# Altium schematic symbol library ZYF_Connector.SchLib: 39 symbols
Pins are listed as number, name and electrical type; pins without a type are passive.

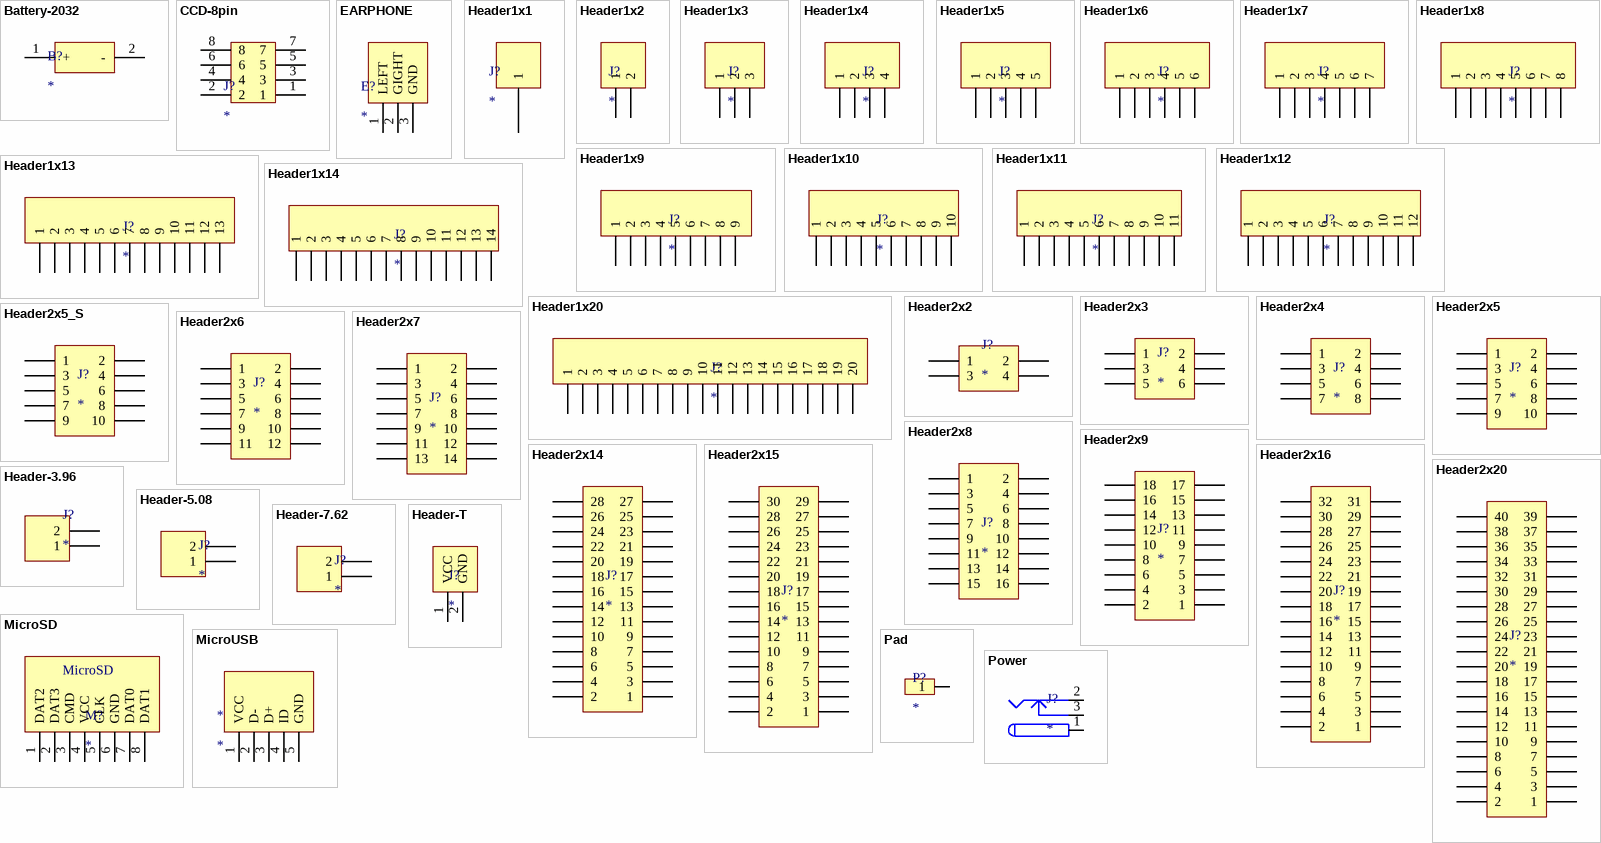
[diagram p0: symbols Battery-2032 to Power]

## Battery-2032
designator B?
footprint BATTERY-2032
pins: 1 +, 2 -

## CCD-8pin
designator J?
footprint CCD_8PIN
pins: 1, 2, 3, 4, 5, 6, 7, 8

## EARPHONE
designator E?
footprint EARPHONE
pins: 1 LEFT, 2 GIGHT, 3 GND

## Header1x1
designator J?
footprint HEADER1X1
pins: 1

## Header1x2
designator J?
footprint HEADER1X2
pins: 1, 2

## Header1x3
designator J?
footprint HEADER1X3
pins: 1, 2, 3

## Header1x4
designator J?
footprint HEADER1X4
pins: 1, 2, 3, 4

## Header1x5
designator J?
footprint HEADER1X5
pins: 1, 2, 3, 4, 5

## Header1x6
designator J?
footprint HEADER1X6
pins: 1, 2, 3, 4, 5, 6

## Header1x7
designator J?
footprint HEADER1X7
pins: 1, 2, 3, 4, 5, 6, 7

## Header1x8
designator J?
footprint HEADER1X8
pins: 1, 2, 3, 4, 5, 6, 7, 8

## Header1x9
designator J?
footprint HEADER1X9
pins: 1, 2, 3, 4, 5, 6, 7, 8, 9

## Header1x10
designator J?
footprint HEADER1X10
pins: 1, 2, 3, 4, 5, 6, 7, 8, 9, 10

## Header1x11
designator J?
footprint HEADER1X11
pins: 1, 2, 3, 4, 5, 6, 7, 8, 9, 10, 11

## Header1x12
designator J?
footprint HEADER1X12
pins: 1, 2, 3, 4, 5, 6, 7, 8, 9, 10, 11, 12

## Header1x13
designator J?
footprint HEADER1X13
pins: 1, 2, 3, 4, 5, 6, 7, 8, 9, 10, 11, 12, 13

## Header1x14
designator J?
footprint HEADER1X14
pins: 1, 2, 3, 4, 5, 6, 7, 8, 9, 10, 11, 12, 13, 14

## Header1x20
designator J?
footprint HEADER1X20
pins: 1, 2, 3, 4, 5, 6, 7, 8, 9, 10, 11, 12, 13, 14, 15, 16, 17, 18, 19, 20

## Header2x2
designator J?
footprint HEADER2X2
pins: 1, 2, 3, 4

## Header2x3
designator J?
footprint HEADER2X3
pins: 1, 2, 3, 4, 5, 6

## Header2x4
designator J?
footprint HEADER2X4
pins: 1, 2, 3, 4, 5, 6, 7, 8

## Header2x5
designator J?
footprint HEADER2X5
pins: 1, 2, 3, 4, 5, 6, 7, 8, 9, 10

## Header2x5_S
designator J?
footprint HEADER2X5_S
pins: 1, 2, 3, 4, 5, 6, 7, 8, 9, 10

## Header2x6
designator J?
footprint HEADER2X6
pins: 1, 2, 3, 4, 5, 6, 7, 8, 9, 10, 11, 12

## Header2x7
designator J?
footprint HEADER2X7
pins: 1, 2, 3, 4, 5, 6, 7, 8, 9, 10, 11, 12, 13, 14

## Header2x8
designator J?
footprint HEADER2X8
pins: 1, 2, 3, 4, 5, 6, 7, 8, 9, 10, 11, 12, 13, 14, 15, 16

## Header2x9
designator J?
footprint HEADER2X9
pins: 1, 2, 3, 4, 5, 6, 7, 8, 9, 10, 11, 12, 13, 14, 15, 16, 17, 18

## Header2x14
designator J?
footprint HEADER2X14
pins: 1, 2, 3, 4, 5, 6, 7, 8, 9, 10, 11, 12, 13, 14, 15, 16, 17, 18, 19, 20, 21, 22, 23, 24, 25, 26, 27, 28

## Header2x15
designator J?
footprint HEADER2X15
pins: 1, 2, 3, 4, 5, 6, 7, 8, 9, 10, 11, 12, 13, 14, 15, 16, 17, 18, 19, 20, 21, 22, 23, 24, 25, 26, 27, 28, 29, 30

## Header2x16
designator J?
footprint HEADER2X16
pins: 1, 2, 3, 4, 5, 6, 7, 8, 9, 10, 11, 12, 13, 14, 15, 16, 17, 18, 19, 20, 21, 22, 23, 24, 25, 26, 27, 28, 29, 30, 31, 32

## Header2x20
designator J?
footprint HEADER2X20
pins: 1, 2, 3, 4, 5, 6, 7, 8, 9, 10, 11, 12, 13, 14, 15, 16, 17, 18, 19, 20, 21, 22, 23, 24, 25, 26, 27, 28, 29, 30, 31, 32, 33, 34, 35, 36, 37, 38, 39, 40

## Header-3.96
designator J?
footprint HEADER-3.96
pins: 1, 2

## Header-5.08
designator J?
footprint HEADER-5.08
pins: 1, 2

## Header-7.62
designator J?
footprint HEADER-7.5
pins: 1, 2

## Header-T
designator J?
footprint HEADER-T
pins: 1 VCC, 2 GND

## MicroSD
designator M?
footprint MicroSD
pins: 1 DAT2, 2 DAT3, 3 CMD, 4 VCC, 5 CLK, 6 GND, 7 DAT0, 8 DAT1

## MicroUSB
designator *
footprint MicroUSB
pins: 1 VCC, 2 D-, 3 D+, 4 ID, 5 GND

## Pad
designator P?
footprint PAD
pins: 1

## Power
designator J?
footprint POWER
pins: 1, 2, 3